# Altium footprint library Motor_parts_pcb_lib.PcbLib: 1 footprints
Each footprint in its own frame and in the unit in brackets; x right, y up, seen from the top. Pads: shape width x height; smd on the part's side, far side on the other; paste and mask are expansions set on the pad; w line width, h text height; cw(c..) or ccw(c..) is an arc to the next point about the centre after c.
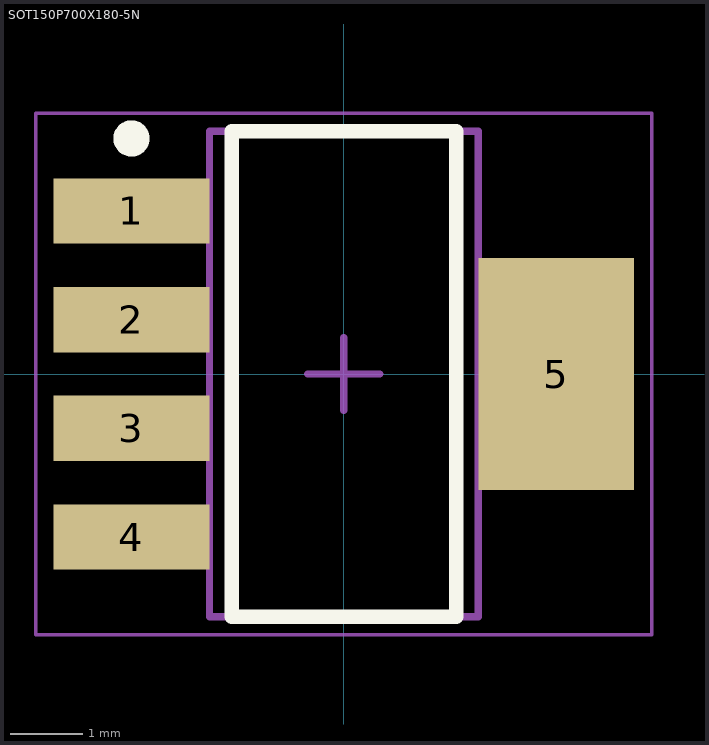
[diagram p0: the footprint, top view; thin cyan lines are the x and y axes]

## SOT150P700X180-5N [mm] "SOT223, 5-Leads, Body 6.50x7.00mm (avg), Pitch 1.50mm, IPC Medium Density"
height 1.8
pads (5):
  rect 2.15x0.9 smd: 1(-2.93,2.25) 2(-2.93,0.75) 3(-2.93,-0.75) 4(-2.93,-2.25)
  rect 2.15x3.2 smd: 5(2.93,0)
Top Overlay:
  circle w0.25: c-2.93,3.25 r0.125
  lines w0.2: -1.55,-3.35 1.55,-3.35 1.55,3.35 -1.55,3.35 -1.55,-3.35
Mechanical 13:
  lines w0.1: -1.855,-3.35 1.855,-3.35 1.855,3.35 -1.855,3.35 -1.855,-3.35
Mechanical 15:
  lines w0.05: -4.25,-3.6 4.25,-3.6 4.25,3.6 -4.25,3.6 -4.25,-3.6
  lines w0.1: -0.5,0 0.5,0 ; 0,-0.5 0,0.5
3D body: height 1.8, standoff 0.03, extent -1.855,-3.35 1.855,3.35